# Altium schematic symbol library RF Switch.SchLib: 5 symbols
Pins are listed as number, name and electrical type; pins without a type are passive.

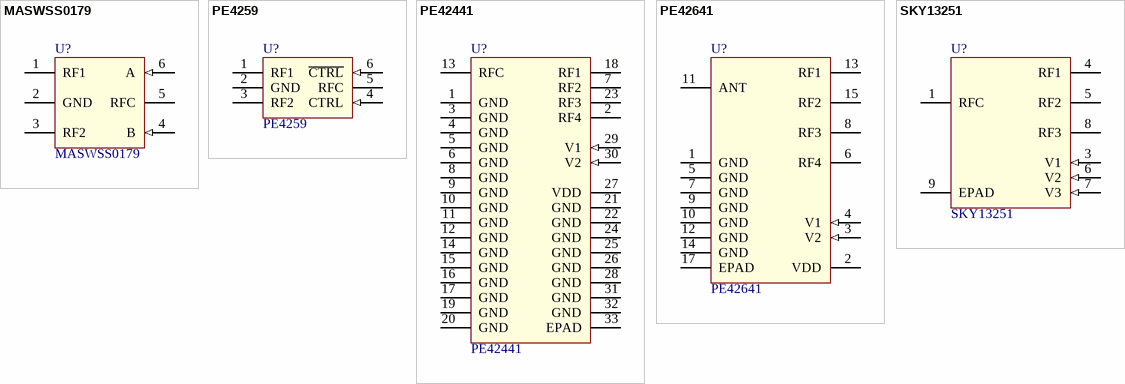
[diagram p0: symbols MASWSS0179 to SKY13251]

## MASWSS0179
designator U?
3 V GaAs SPDT Switch; Value: MASWSS0179
footprint SOT-23-6 (SOT23, 6-Leads, Body 2.9x1.6mm, Pitch 0.95mm, Lead Span 2.8mm, IPC Medium Density)
pins: 1 RF1 "RF Port 1", 2 GND (power), 3 RF2 "RF Port 2", 4 B (in) "Switch control input, CMOS logic level", 5 RFC "RF Common – Antenna", 6 A (in) "Switch control input, CMOS logic level"

## PE4259
designator U?
SPDT High Power UltraCMOS® 10 MHz–3.0 GHz RF Switch; Value: PE4259
footprint SOT-323-6 (SC-70) (SC6 Package 6-Lead Plastic SC70)
pins: 1 RF1 "RF Port 1", 2 GND (power) "Ground for proper device operation", 3 RF2 "RF Port 2", 4 CTRL (in), 5 RFC "RF Common – Antenna", 6 ~{CTRL} (in)

## PE42441
designator U?
UltraCMOS® SP4T RF Switch, 10 MHz–8 GHz; Value: PE42441
footprint LGA-32 (5X5) (LGA, 32-Leads, Body 5.00x5.00mm, Pitch 0.50mm, Thermal Pad 3.08x3.08mm, IPC Medium Density)
pins: 1 GND (power), 2 RF4 "RF Port 4", 3 GND (power), 4 GND (power), 5 GND (power), 6 GND (power), 7 RF2 "RF Port 2", 8 GND (power), 9 GND (power), 10 GND (power), 11 GND (power), 12 GND (power), 13 RFC "RF Common – Antenna", 14 GND (power), 15 GND (power), 16 GND (power), 17 GND (power), 18 RF1 "RF Port 1", 19 GND (power), 20 GND (power), 21 GND (power), 22 GND (power), 23 RF3 "RF Port 3", 24 GND (power), 25 GND (power), 26 GND (power), 27 VDD (power), 28 GND (power), 29 V1 (in) "Switch control input, CMOS logic level", 30 V2 (in) "Switch control input, CMOS logic level", 31 GND (power), 32 GND (power), 33 EPAD (power) "Ground for proper device operation"

## PE42641
designator U?
The PE42641 is a HaRP™-enhanced SP4T RF switch; Value: PE42641
footprint QFN-16-3X3 (QFN, 16-Leads, Body 3,00x3,00mm, Pitch 0,50mm, Thermal Pad 1,68x1,68mm, IPC Low Density)
pins: 1 GND (power), 2 VDD (power), 3 V2 (in) "Switch control input, CMOS logic level", 4 V1 (in) "Switch control input, CMOS logic level", 5 GND (power), 6 RF4 "RF Port 4", 7 GND (power), 8 RF3 "RF Port 3", 9 GND (power), 10 GND (power), 11 ANT "RF Common – Antenna", 12 GND (power), 13 RF1 "RF Port 1", 14 GND (power), 15 RF2 "RF Port 2", 17 EPAD (power) "Ground for proper device operation"

## SKY13251
designator U?
The PE42641 is a HaRP™-enhanced SP4T RF switch; Value: SKY13251
footprint QFN-8E-2x2 (QFN, 8-Leads, Body 2.00x2.00mm, Pitch 0.50mm, Thermal Pad 0.58x1.01mm, IPC Medium Density)
pins: 1 RFC "RF Common – Antenna", 3 V1 (in) "Switch control input, CMOS logic level", 4 RF1 "RF Port 1", 5 RF2 "RF Port 2", 6 V2 (in) "Switch control input, CMOS logic level", 7 V3 (in) "Switch control input, CMOS logic level", 8 RF3 "RF Port 3", 9 EPAD (power) "Ground for proper device operation"